# EAGLE library part TAC5242IRGER (library TAC5242IRGER)
Audio Interface 16 b, 24 b, 32 b DSP, I2C, I2S, PCM, SPI 24-VQFN (4x4) Source: Datasheet <https://www.ti.com/lit/gpn/tac5242>
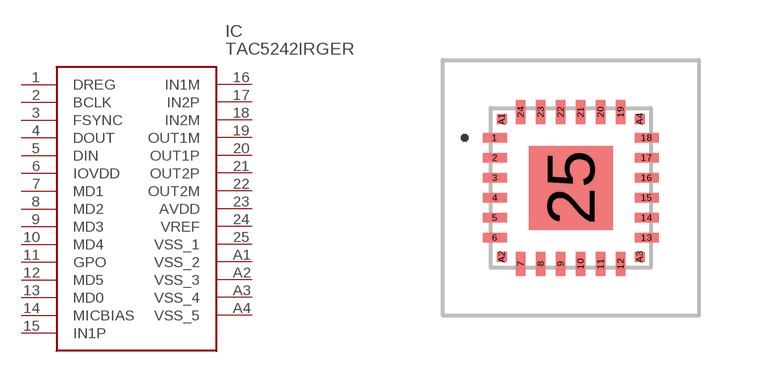
[diagram p0: symbol with the pads of TAC5242IRGER; footprint TAC5242IRGER]

Designator prefix IC

## TAC5242IRGER (Description: Audio Interface 16 b, 24 b, 32 b DSP, I2C, I2S, PCM, SPI 24-VQFN (4x4); Height: 1mm; Manufacturer_Name: Texas Instruments; Manufacturer_Part_Number: TAC5242IRGER; Mouser_Part_Number: 595-TAC5242IRGER; Mouser_Price-Stock: https://www.mouser.co.uk/ProductDetail/Texas-Instruments/TAC5242IRGER?qs=a2MtRaTmNORoQy1nhKqWlw%3D%3D)  [TAC5242IRGER]
1  DREG
2  BCLK
3  FSYNC
4  DOUT
5  DIN
6  IOVDD
7  MD1
8  MD2
9  MD3
10  MD4
11  GPO
12  MD5
13  MD0
14  MICBIAS
15  IN1P
16  IN1M
17  IN2P
18  IN2M
19  OUT1M
20  OUT1P
21  OUT2P
22  OUT2M
23  AVDD
24  VREF
25  VSS_1
A1  VSS_2
A2  VSS_3
A3  VSS_4
A4  VSS_5

## Footprint TAC5242IRGER (pad centres in mm)
RGE0024R_2024-6
smd 0.6 x 0.24: 1 -1.9,1.25; 2 -1.9,0.75; 3 -1.9,0.25; 4 -1.9,-0.25; 5 -1.9,-0.75; 6 -1.9,-1.25; 13 1.9,-1.25; 14 1.9,-0.75; 15 1.9,-0.25; 16 1.9,0.25; 17 1.9,0.75; 18 1.9,1.25
smd 0.24 x 0.6: 7 -1.25,-1.9; 8 -0.75,-1.9; 9 -0.25,-1.9; 10 0.25,-1.9; 11 0.75,-1.9; 12 1.25,-1.9; 19 1.25,1.9; 20 0.75,1.9; 21 0.25,1.9; 22 -0.25,1.9; 23 -0.75,1.9; 24 -1.25,1.9
smd 2.1 x 2.1: 25 0,0
smd 0.25 x 0.25: A1 -1.725,1.725; A2 -1.725,-1.725; A3 1.725,-1.725; A4 1.725,1.725